# Altium schematic symbol library RJ45_transformer.SchLib: 1 symbol
Pins are listed as number, name and electrical type; pins without a type are passive.

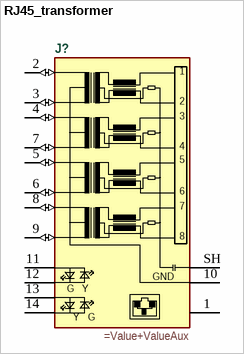
[diagram p0: symbol RJ45_transformer]

## RJ45_transformer
designator J?
=Description
pins: 1 (power), 2 (io), 3 (io), 4 (io), 5 (io), 6 (io), 7 (io), 8 (io), 9 (io), 10 (power), 11, 12, 13, 14, SH
text: GND; G; Y